# Altium schematic symbol library CartridgeBondingFinger.SchLib: 1 symbol
Pins are listed as number, name and electrical type; pins without a type are passive.

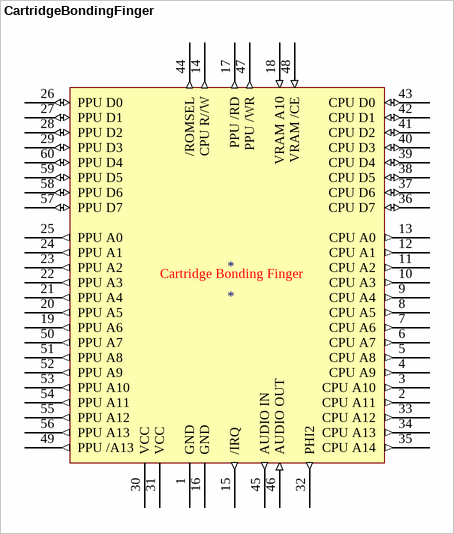
[diagram p0: symbol CartridgeBondingFinger]

## CartridgeBondingFinger
designator *
footprint CartridgeBondingFinger
pins: 1 GND (power), 2 CPU A11 (out), 3 CPU A10 (out), 4 CPU A9 (out), 5 CPU A8 (out), 6 CPU A7 (out), 7 CPU A6 (out), 8 CPU A5 (out), 9 CPU A4 (out), 10 CPU A3 (out), 11 CPU A2 (out), 12 CPU A1 (out), 13 CPU A0 (out), 14 CPU R//W (out), 15 /IRQ (out), 16 GND (power), 17 PPU /RD (out), 18 VRAM A10 (in), 19 PPU A6 (out), 20 PPU A5 (out), 21 PPU A4 (out), 22 PPU A3 (out), 23 PPU A2 (out), 24 PPU A1 (out), 25 PPU A0 (out), 26 PPU D0 (io), 27 PPU D1 (io), 28 PPU D2 (io), 29 PPU D3 (io), 30 VCC (power), 31 VCC (power), 32 PHI2 (out), 33 CPU A12 (out), 34 CPU A13 (out), 35 CPU A14 (out), 36 CPU D7 (io), 37 CPU D6 (io), 38 CPU D5 (io), 39 CPU D4 (io), 40 CPU D3 (io), 41 CPU D2 (io), 42 CPU D1 (io), 43 CPU D0 (io), 44 /ROMSEL (out), 45 AUDIO IN (out), 46 AUDIO OUT (in), 47 PPU /WR (out), 48 VRAM /CE (in), 49 PPU /A13 (out), 50 PPU A7 (out), 51 PPU A8 (out), 52 PPU A9 (out), 53 PPU A10 (out), 54 PPU A11 (out), 55 PPU A12 (out), 56 PPU A13 (out), 57 PPU D7 (io), 58 PPU D6 (io), 59 PPU D5 (io), 60 PPU D4 (io)
text: Cartridge Bonding Finger